# Altium footprint library Key.PcbLib: 1 footprints
Each footprint in its own frame and in the unit in brackets; x right, y up, seen from the top. Pads: shape width x height; smd on the part's side, far side on the other; paste and mask are expansions set on the pad; w line width, h text height; cw(c..) or ccw(c..) is an arc to the next point about the centre after c.
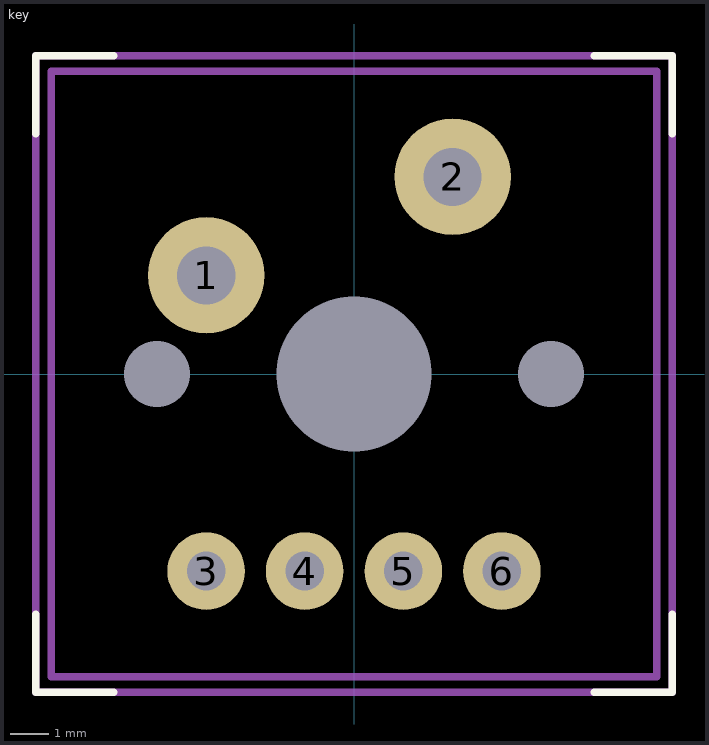
[diagram p0: the footprint, top view; thin cyan lines are the x and y axes]

## key [mm]
pads (9):
  round 3 hole 1.5: 1(-3.81,2.54) 2(2.54,5.08)
  round 2 hole 1: 3(-3.81,-5.08) 4(-1.27,-5.08) 5(1.27,-5.08) 6(3.81,-5.08)
  round 0 hole 1.7 unplated: 9(-5.08,0) 9(5.08,0)
  round 0 hole 4 unplated: 9(0,0)
Top Overlay:
  lines w0.2: -8.2,-6.2 -8.2,-8.2 -6.2,-8.2 ; -8.2,6.2 -8.2,8.2 -6.2,8.2 ; 6.2,-8.2 8.2,-8.2 8.2,-6.2 ; 6.2,8.2 8.2,8.2 8.2,6.2
Mechanical 13:
  lines w0.2: -7.8,-7.8 7.8,-7.8 7.8,7.8 -7.8,7.8 -7.8,-7.8
Mechanical 15 (Mech15):
  lines w0.2: -1,0 1,0 ; 0,-1 0,1 0,0 ; -8.2,-8.2 -8.2,8.2 8.2,8.2 8.2,-8.2 -8.2,-8.2
3D body "User Library-MX-Blue.STEP": height 15.4, standoff -3.5, extent -7.8,-7.8 7.8,7.8